# Altium integrated library Capacitor - Ceramic - Sumsung.IntLib: 1421 symbols (part 9 of 22)
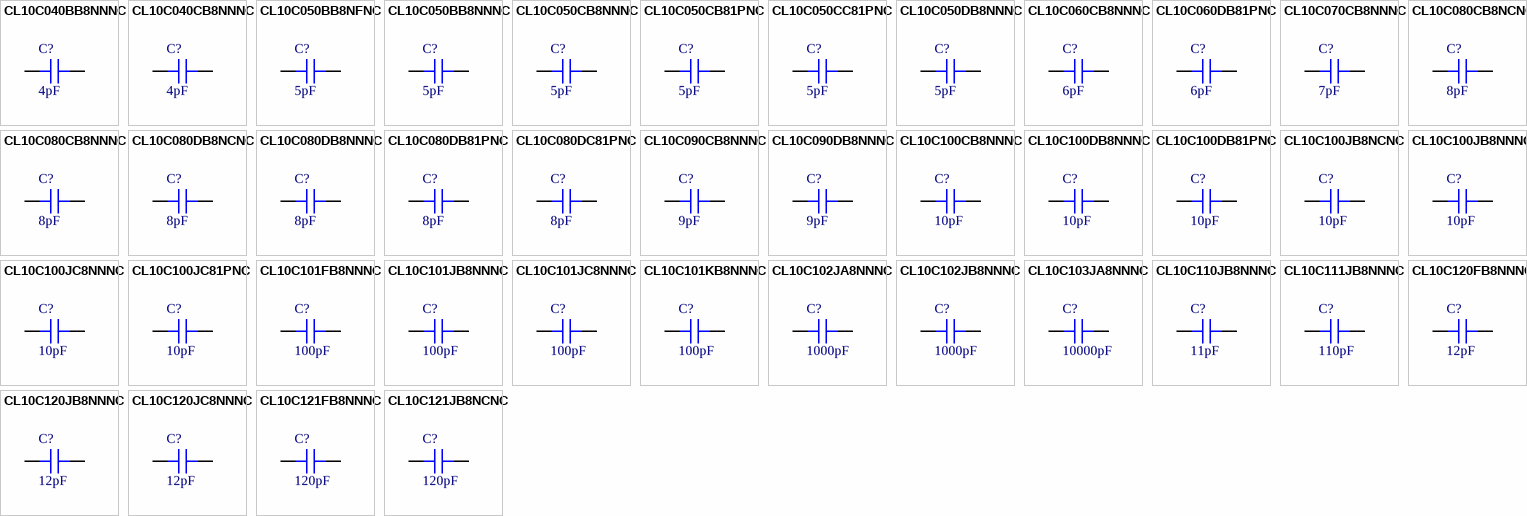
[diagram p43: symbols CL10C040BB8NNNC to CL10C121JB8NCNC]

## CL10C080CB8NCNC
designator C?, comment 8pF
CAP CER 8PF 50V NP0 0603; Part Number: CL10C080CB8NCNC; Manufacturer: Samsung Electro-Mechanics America, Inc.; TemperatureRange: -55C ~ 125C; TemperatureCoefficient: C0G, NP0; Tolerance: 0.25pF; Value: 8pF; PartId: 5396; Supplier 1: Digi-Key; Supplier Part Number 1: 1276-2139-2-ND; ComponentLink1Description: Datasheet; ComponentLink1URL: http://media.digikey.com/pdf/Data%20Sheets/Samsung%20PDFs/CL10C080CB8NCNC_spec.pdf; ComponentLink2Description: Digi-Key listing; ComponentLink2URL: http://digikey.com/product-detail/en/CL10C080CB8NCNC/1276-2139-2-ND/3887797; Voltage: 50V; Price: 0.0112; Type: -; Device Package: 0603 (1608 Metric)
footprint CAP 0603/1608
pins: 1, 2

## CL10C080CB8NNNC
designator C?, comment 8pF
CAP CER 8PF 50V C0G/NP0 0603; Part Number: CL10C080CB8NNNC; Manufacturer: Samsung Electro-Mechanics; TemperatureRange: -55C ~ 125C; TemperatureCoefficient: C0G, NP0; Tolerance: 0.25pF; Value: 8pF; PartId: 30239; Supplier 1: Digi-Key; Supplier Part Number 1: 1276-1817-2-ND; ComponentLink1Description: Datasheet; ComponentLink1URL: http://www.samsungsem.com/kr/support/product-search/mlcc/CL10C080CB8NNNC.jsp; ComponentLink2Description: Digi-Key Listing; ComponentLink2URL: https://www.digikey.com/product-detail/en/samsung-electro-mechanics/CL10C080CB8NNNC/1276-1817-2-ND/3887475; Voltage: 50V; Price: 0; Device Package: 0603 (1608 Metric)
footprint CAP 0603/1608
pins: 1, 2

## CL10C080DB8NCNC
designator C?, comment 8pF
CAP CER 8PF 50V C0G/NP0 0603; Part Number: CL10C080DB8NCNC; Manufacturer: Samsung Electro-Mechanics; TemperatureRange: -55C ~ 125C; TemperatureCoefficient: C0G, NP0; Tolerance: 0.5pF; Value: 8pF; PartId: 30225; Supplier 1: Digi-Key; Supplier Part Number 1: 1276-2140-2-ND; ComponentLink1Description: Datasheet; ComponentLink1URL: http://www.samsungsem.com/kr/support/product-search/mlcc/CL10C080DB8NCNC.jsp; ComponentLink2Description: Digi-Key Listing; ComponentLink2URL: https://www.digikey.com/product-detail/en/samsung-electro-mechanics/CL10C080DB8NCNC/1276-2140-2-ND/3887798; Voltage: 50V; Price: 0; Device Package: 0603 (1608 Metric)
footprint CAP 0603/1608
pins: 1, 2

## CL10C080DB8NNNC
designator C?, comment 8pF
CAP CER 8PF 50V NP0 0603; Part Number: CL10C080DB8NNNC; Manufacturer: Samsung Electro-Mechanics America, Inc.; TemperatureRange: -55C ~ 125C; TemperatureCoefficient: C0G, NP0; Tolerance: 0.5pF; Value: 8pF; PartId: 5378; Supplier 1: Digi-Key; Supplier Part Number 1: 1276-2141-2-ND; ComponentLink1Description: Datasheet; ComponentLink1URL: http://www.samsungsem.com/kr/support/product-search/mlcc/CL10C080DB8NNNC.jsp; ComponentLink2Description: Digi-Key listing; ComponentLink2URL: http://digikey.com/product-detail/en/CL10C080DB8NNNC/1276-2141-2-ND/3887799; Voltage: 50V; Price: 0.0102; Type: -; Device Package: 0603 (1608 Metric)
footprint CAP 0603/1608
pins: 1, 2

## CL10C080DB81PNC
designator C?, comment 8pF
MLCC AUTOMOTIVE 1608(0603) C0G; Part Number: CL10C080DB81PNC; Manufacturer: Samsung Electro-Mechanics; TemperatureRange: -55C ~ 125C; TemperatureCoefficient: C0G, NP0; Tolerance: 0.5pF; Voltage: 50V; Value: 8pF; PartId: 30718; Supplier 1: Digi-Key; Supplier Part Number 1: 1276-7008-2-ND; ComponentLink1Description: Datasheet; ComponentLink1URL: http://www.samsungsem.com/kr/support/product-search/mlcc/CL10C080DB81PNC.jsp; ComponentLink2Description: Digi-Key Listing; ComponentLink2URL: https://www.digikey.com/product-detail/en/samsung-electro-mechanics/CL10C080DB81PNC/1276-7008-2-ND/7320513; Price: 0; Device Package: 0603 (1608 Metric)
footprint CAP 0603/1608
pins: 1, 2

## CL10C080DC81PNC
designator C?, comment 8pF
CAP CER 8PF 100V C0G/NP0 0603; Part Number: CL10C080DC81PNC; Manufacturer: Samsung Electro-Mechanics; TemperatureRange: -55C ~ 125C; TemperatureCoefficient: C0G, NP0; Tolerance: 0.5pF; Value: 8pF; PartId: 30845; Supplier 1: Digi-Key; Supplier Part Number 1: 1276-6519-2-ND; ComponentLink1Description: Datasheet; ComponentLink1URL: http://www.samsungsem.com/kr/support/product-search/mlcc/CL10C080DC81PNC.jsp; ComponentLink2Description: Digi-Key Listing; ComponentLink2URL: https://www.digikey.com/product-detail/en/samsung-electro-mechanics/CL10C080DC81PNC/1276-6519-2-ND/5961003; Voltage: 100V; Price: 0; Device Package: 0603 (1608 Metric)
footprint CAP 0603/1608
pins: 1, 2

## CL10C090CB8NNNC
designator C?, comment 9pF
CAP CER 9PF 50V NP0 0603; Part Number: CL10C090CB8NNNC; Manufacturer: Samsung Electro-Mechanics America, Inc.; TemperatureRange: -55C ~ 125C; TemperatureCoefficient: C0G, NP0; Tolerance: 0.25pF; Value: 9pF; PartId: 5402; Supplier 1: Digi-Key; Supplier Part Number 1: 1276-2142-2-ND; ComponentLink1Description: Datasheet; ComponentLink1URL: http://www.samsungsem.com/kr/support/product-search/mlcc/CL10C090CB8NNNC.jsp; ComponentLink2Description: Digi-Key listing; ComponentLink2URL: http://digikey.com/product-detail/en/CL10C090CB8NNNC/1276-2142-2-ND/3887800; Voltage: 50V; Price: 0.0116; Type: -; Device Package: 0603 (1608 Metric)
footprint CAP 0603/1608
pins: 1, 2

## CL10C090DB8NNNC
designator C?, comment 9pF
CAP CER 9PF 50V NP0 0603; Part Number: CL10C090DB8NNNC; Manufacturer: Samsung Electro-Mechanics America, Inc.; TemperatureRange: -55C ~ 125C; TemperatureCoefficient: C0G, NP0; Tolerance: 0.5pF; Value: 9pF; PartId: 5381; Supplier 1: Digi-Key; Supplier Part Number 1: 1276-2143-2-ND; ComponentLink1Description: Datasheet; ComponentLink1URL: http://www.samsungsem.com/kr/support/product-search/mlcc/CL10C090DB8NNNC.jsp; ComponentLink2Description: Digi-Key listing; ComponentLink2URL: http://digikey.com/product-detail/en/CL10C090DB8NNNC/1276-2143-2-ND/3887801; Voltage: 50V; Price: 0.0102; Type: -; Device Package: 0603 (1608 Metric)
footprint CAP 0603/1608
pins: 1, 2

## CL10C100CB8NNNC
designator C?, comment 10pF
CAP CER 10PF 50V NP0 0603; Part Number: CL10C100CB8NNNC; Manufacturer: Samsung Electro-Mechanics America, Inc.; TemperatureRange: -55C ~ 125C; TemperatureCoefficient: C0G, NP0; Tolerance: 0.25pF; Value: 10pF; PartId: 5393; Supplier 1: Digi-Key; Supplier Part Number 1: 1276-1069-2-ND; ComponentLink1Description: Datasheet; ComponentLink1URL: http://www.samsungsem.com/kr/support/product-search/mlcc/CL10C100CB8NNNC.jsp; ComponentLink2Description: Digi-Key listing; ComponentLink2URL: http://digikey.com/product-detail/en/CL10C100CB8NNNC/1276-1069-2-ND/3886727; Voltage: 50V; Price: 0.0109; Type: -; Device Package: 0603 (1608 Metric)
footprint CAP 0603/1608
pins: 1, 2

## CL10C100DB8NNNC
designator C?, comment 10pF
CAP CER 10PF 50V NP0 0603; Part Number: CL10C100DB8NNNC; Manufacturer: Samsung Electro-Mechanics America, Inc.; TemperatureRange: -55C ~ 125C; TemperatureCoefficient: C0G, NP0; Tolerance: 0.5pF; Value: 10pF; PartId: 5356; Supplier 1: Digi-Key; Supplier Part Number 1: 1276-2151-2-ND; ComponentLink1Description: Datasheet; ComponentLink1URL: http://www.samsungsem.com/kr/support/product-search/mlcc/CL10C100DB8NNNC.jsp; ComponentLink2Description: Digi-Key listing; ComponentLink2URL: http://digikey.com/product-detail/en/CL10C100DB8NNNC/1276-2151-2-ND/3887809; Voltage: 50V; Price: 0.0099; Type: -; Device Package: 0603 (1608 Metric)
footprint CAP 0603/1608
pins: 1, 2

## CL10C100DB81PNC
designator C?, comment 10pF
MLCC AUTOMOTIVE 1608(0603) C0G; Part Number: CL10C100DB81PNC; Manufacturer: Samsung Electro-Mechanics; TemperatureRange: -55C ~ 125C; TemperatureCoefficient: C0G, NP0; Tolerance: 0.5pF; Voltage: 50V; Value: 10pF; PartId: 30812; Supplier 1: Digi-Key; Supplier Part Number 1: 1276-7050-2-ND; ComponentLink1Description: Datasheet; ComponentLink1URL: http://www.samsungsem.com/kr/support/product-search/mlcc/CL10C100DB81PNC.jsp; ComponentLink2Description: Digi-Key Listing; ComponentLink2URL: https://www.digikey.com/product-detail/en/samsung-electro-mechanics/CL10C100DB81PNC/1276-7050-2-ND/7320555; Price: 0; Device Package: 0603 (1608 Metric)
footprint CAP 0603/1608
pins: 1, 2

## CL10C100JB8NCNC
designator C?, comment 10pF
CAP CER 10PF 50V NP0 0603; Part Number: CL10C100JB8NCNC; Manufacturer: Samsung Electro-Mechanics America, Inc.; TemperatureRange: -55C ~ 125C; TemperatureCoefficient: C0G, NP0; Tolerance: 5%; Value: 10pF; PartId: 5311; Supplier 1: Digi-Key; Supplier Part Number 1: 1276-2154-2-ND; ComponentLink1Description: Datasheet; ComponentLink1URL: http://media.digikey.com/pdf/Data%20Sheets/Samsung%20PDFs/CL10C100JB8NCNC_spec.pdf; ComponentLink2Description: Digi-Key listing; ComponentLink2URL: http://digikey.com/product-detail/en/CL10C100JB8NCNC/1276-2154-2-ND/3887812; Voltage: 50V; Price: 0.0081; Type: -; Device Package: 0603 (1608 Metric)
footprint CAP 0603/1608
pins: 1, 2

## CL10C100JB8NNNC
designator C?, comment 10pF
CAP CER 10PF 50V NP0 0603; Part Number: CL10C100JB8NNNC; Manufacturer: Samsung Electro-Mechanics America, Inc.; TemperatureRange: -55C ~ 125C; TemperatureCoefficient: C0G, NP0; Tolerance: 5%; Value: 10pF; PartId: 13479; Supplier 1: Digi-Key; Supplier Part Number 1: 1276-1027-2-ND; ComponentLink1Description: Datasheet; ComponentLink1URL: http://www.samsungsem.com/kr/support/product-search/mlcc/CL10C100JB8NNNC.jsp; ComponentLink2Description: Digi-Key Listing; ComponentLink2URL: https://www.digikey.com/product-detail/en/samsung-electro-mechanics-america-inc/CL10C100JB8NNNC/1276-1027-2-ND/3886685; Voltage: 50V; Price: 0.0056; Device Package: 0603 (1608 Metric)
footprint CAP 0603/1608
pins: 1, 2

## CL10C100JC8NNNC
designator C?, comment 10pF
CAP CER 10PF 100V NP0 0603; Part Number: CL10C100JC8NNNC; Manufacturer: Samsung Electro-Mechanics America, Inc.; TemperatureRange: -55C ~ 125C; TemperatureCoefficient: C0G, NP0; Tolerance: 5%; Value: 10pF; PartId: 5421; Supplier 1: Digi-Key; Supplier Part Number 1: 1276-2157-2-ND; ComponentLink1Description: Datasheet; ComponentLink1URL: http://www.samsungsem.com/kr/support/product-search/mlcc/CL10C100JC8NNNC.jsp; ComponentLink2Description: Digi-Key listing; ComponentLink2URL: http://digikey.com/product-detail/en/CL10C100JC8NNNC/1276-2157-2-ND/3887815; Voltage: 100V; Price: 0.0133; Type: -; Device Package: 0603 (1608 Metric)
footprint CAP 0603/1608
pins: 1, 2

## CL10C100JC81PNC
designator C?, comment 10pF
CAP CER 10PF 100V C0G/NP0 0603; Part Number: CL10C100JC81PNC; Manufacturer: Samsung Electro-Mechanics; TemperatureRange: -55C ~ 125C; TemperatureCoefficient: C0G, NP0; Tolerance: 5%; Value: 10pF; PartId: 30548; Supplier 1: Digi-Key; Supplier Part Number 1: 1276-6588-2-ND; ComponentLink1Description: Datasheet; ComponentLink1URL: http://www.samsungsem.com/kr/support/product-search/mlcc/CL10C100JC81PNC.jsp; ComponentLink2Description: Digi-Key Listing; ComponentLink2URL: https://www.digikey.com/product-detail/en/samsung-electro-mechanics/CL10C100JC81PNC/1276-6588-2-ND/5961072; Voltage: 100V; Price: 0; Device Package: 0603 (1608 Metric)
footprint CAP 0603/1608
pins: 1, 2

## CL10C101FB8NNNC
designator C?, comment 100pF
CAP CER 100PF 50V NP0 0603; Part Number: CL10C101FB8NNNC; Manufacturer: Samsung Electro-Mechanics America, Inc.; TemperatureRange: -55C ~ 125C; TemperatureCoefficient: C0G, NP0; Tolerance: 1%; Value: 100pF; PartId: 5587; Supplier 1: Digi-Key; Supplier Part Number 1: 1276-2159-2-ND; ComponentLink1Description: Datasheet; ComponentLink1URL: http://media.digikey.com/pdf/Data%20Sheets/Samsung%20PDFs/CL10C101FB8NNNC_spec.pdf; ComponentLink2Description: Digi-Key listing; ComponentLink2URL: http://digikey.com/product-detail/en/CL10C101FB8NNNC/1276-2159-2-ND/3887817; Voltage: 50V; Price: 0.0308; Type: -; Device Package: 0603 (1608 Metric)
footprint CAP 0603/1608
pins: 1, 2

## CL10C101JB8NNNC
designator C?, comment 100pF
CAP CER 100PF 50V NP0 0603; Part Number: CL10C101JB8NNNC; Manufacturer: Samsung Electro-Mechanics America, Inc.; TemperatureRange: -55C ~ 125C; TemperatureCoefficient: C0G, NP0; Tolerance: 5%; Value: 100pF; PartId: 5283; Supplier 1: Digi-Key; Supplier Part Number 1: 1276-1008-2-ND; ComponentLink1Description: Datasheet; ComponentLink1URL: http://www.samsungsem.com/kr/support/product-search/mlcc/CL10C101JB8NNNC.jsp; ComponentLink2Description: Digi-Key listing; ComponentLink2URL: http://digikey.com/product-detail/en/CL10C101JB8NNNC/1276-1008-2-ND/3886666; Voltage: 50V; Price: 0.0069; Type: -; Device Package: 0603 (1608 Metric)
footprint CAP 0603/1608
pins: 1, 2

## CL10C101JC8NNNC
designator C?, comment 100pF
CAP CER 100PF 100V NP0 0603; Part Number: CL10C101JC8NNNC; Manufacturer: Samsung Electro-Mechanics America, Inc.; TemperatureRange: -55C ~ 125C; TemperatureCoefficient: C0G, NP0; Tolerance: 5%; Value: 100pF; PartId: 5420; Supplier 1: Digi-Key; Supplier Part Number 1: 1276-1295-2-ND; ComponentLink1Description: Datasheet; ComponentLink1URL: http://www.samsungsem.com/kr/support/product-search/mlcc/CL10C101JC8NNNC.jsp; ComponentLink2Description: Digi-Key listing; ComponentLink2URL: http://digikey.com/product-detail/en/CL10C101JC8NNNC/1276-1295-2-ND/3886953; Voltage: 100V; Price: 0.0133; Type: -; Device Package: 0603 (1608 Metric)
footprint CAP 0603/1608
pins: 1, 2

## CL10C101KB8NNNC
designator C?, comment 100pF
CAP CER 100PF 50V NP0 0603; Part Number: CL10C101KB8NNNC; Manufacturer: Samsung Electro-Mechanics America, Inc.; TemperatureRange: -55C ~ 125C; TemperatureCoefficient: C0G, NP0; Tolerance: 10%; Value: 100pF; PartId: 5284; Supplier 1: Digi-Key; Supplier Part Number 1: 1276-2167-2-ND; ComponentLink1Description: Datasheet; ComponentLink1URL: http://www.samsungsem.com/kr/support/product-search/mlcc/CL10C101KB8NNNC.jsp; ComponentLink2Description: Digi-Key listing; ComponentLink2URL: http://digikey.com/product-detail/en/CL10C101KB8NNNC/1276-2167-2-ND/3887825; Voltage: 50V; Price: 0.0069; Type: -; Device Package: 0603 (1608 Metric)
footprint CAP 0603/1608
pins: 1, 2

## CL10C102JA8NNNC
designator C?, comment 1000pF
CAP CER 1000PF 25V NP0 0603; Part Number: CL10C102JA8NNNC; Manufacturer: Samsung Electro-Mechanics America, Inc.; TemperatureRange: -55C ~ 125C; TemperatureCoefficient: C0G, NP0; Tolerance: 5%; Value: 1000pF; PartId: 5399; Supplier 1: Digi-Key; Supplier Part Number 1: 1276-2168-2-ND; ComponentLink1Description: Datasheet; ComponentLink1URL: http://www.samsungsem.com/kr/support/product-search/mlcc/CL10C102JA8NNNC.jsp; ComponentLink2Description: Digi-Key listing; ComponentLink2URL: http://digikey.com/product-detail/en/CL10C102JA8NNNC/1276-2168-2-ND/3887826; Voltage: 25V; Price: 0.0112; Type: -; Device Package: 0603 (1608 Metric)
footprint CAP 0603/1608
pins: 1, 2

## CL10C102JB8NNNC
designator C?, comment 1000pF
CAP CER 1000PF 50V NP0 0603; Part Number: CL10C102JB8NNNC; Manufacturer: Samsung Electro-Mechanics America, Inc.; TemperatureRange: -55C ~ 125C; TemperatureCoefficient: C0G, NP0; Tolerance: 5%; Value: 1000pF; PartId: 5339; Supplier 1: Digi-Key; Supplier Part Number 1: 1276-1091-2-ND; ComponentLink1Description: Datasheet; ComponentLink1URL: http://www.samsungsem.com/kr/support/product-search/mlcc/CL10C102JB8NNNC.jsp; ComponentLink2Description: Digi-Key listing; ComponentLink2URL: http://digikey.com/product-detail/en/CL10C102JB8NNNC/1276-1091-2-ND/3886749; Voltage: 50V; Price: 0.0097; Type: -; Device Package: 0603 (1608 Metric)
footprint CAP 0603/1608
pins: 1, 2

## CL10C103JA8NNNC
designator C?, comment 10000pF
CAP CER 10000PF 25V NP0 0603; Part Number: CL10C103JA8NNNC; Manufacturer: Samsung Electro-Mechanics America, Inc.; TemperatureRange: -55C ~ 125C; TemperatureCoefficient: C0G, NP0; Tolerance: 5%; Value: 10000pF; PartId: 5657; Supplier 1: Digi-Key; Supplier Part Number 1: 1276-2172-2-ND; ComponentLink1Description: Datasheet; ComponentLink1URL: http://www.samsungsem.com/kr/support/product-search/mlcc/CL10C103JA8NNNC.jsp; ComponentLink2Description: Digi-Key listing; ComponentLink2URL: http://digikey.com/product-detail/en/CL10C103JA8NNNC/1276-2172-2-ND/3887830; Voltage: 25V; Price: 0.0689; Type: -; Device Package: 0603 (1608 Metric)
footprint CAP 0603/1608
pins: 1, 2

## CL10C110JB8NNNC
designator C?, comment 11pF
CAP CER 11PF 50V C0G/NP0 0603; Part Number: CL10C110JB8NNNC; Manufacturer: Samsung Electro-Mechanics; TemperatureRange: -55C ~ 125C; TemperatureCoefficient: C0G, NP0; Tolerance: 5%; Value: 11pF; PartId: 30226; Supplier 1: Digi-Key; Supplier Part Number 1: 1276-2173-2-ND; ComponentLink1Description: Datasheet; ComponentLink1URL: http://www.samsungsem.com/kr/support/product-search/mlcc/CL10C110JB8NNNC.jsp; ComponentLink2Description: Digi-Key Listing; ComponentLink2URL: https://www.digikey.com/product-detail/en/samsung-electro-mechanics/CL10C110JB8NNNC/1276-2173-2-ND/3887831; Voltage: 50V; Price: 0; Device Package: 0603 (1608 Metric)
footprint CAP 0603/1608
pins: 1, 2

## CL10C111JB8NNNC
designator C?, comment 110pF
CAP CER 110PF 50V NP0 0603; Part Number: CL10C111JB8NNNC; Manufacturer: Samsung Electro-Mechanics America, Inc.; TemperatureRange: -55C ~ 125C; TemperatureCoefficient: C0G, NP0; Tolerance: 5%; Value: 110pF; PartId: 5453; Supplier 1: Digi-Key; Supplier Part Number 1: 1276-2174-2-ND; ComponentLink1Description: Datasheet; ComponentLink1URL: http://www.samsungsem.com/kr/support/product-search/mlcc/CL10C111JB8NNNC.jsp; ComponentLink2Description: Digi-Key listing; ComponentLink2URL: http://digikey.com/product-detail/en/CL10C111JB8NNNC/1276-2174-2-ND/3887832; Voltage: 50V; Price: 0.0153; Type: -; Device Package: 0603 (1608 Metric)
footprint CAP 0603/1608
pins: 1, 2

## CL10C120FB8NNNC
designator C?, comment 12pF
CAP CER 12PF 50V NP0 0603; Part Number: CL10C120FB8NNNC; Manufacturer: Samsung Electro-Mechanics America, Inc.; TemperatureRange: -55C ~ 125C; TemperatureCoefficient: C0G, NP0; Tolerance: 1%; Value: 12pF; PartId: 5481; Supplier 1: Digi-Key; Supplier Part Number 1: 1276-2175-2-ND; ComponentLink1Description: Datasheet; ComponentLink1URL: http://media.digikey.com/pdf/Data%20Sheets/Samsung%20PDFs/CL10C120FB8NNNC_spec.pdf; ComponentLink2Description: Digi-Key listing; ComponentLink2URL: http://digikey.com/product-detail/en/CL10C120FB8NNNC/1276-2175-2-ND/3887833; Voltage: 50V; Price: 0.0183; Type: -; Device Package: 0603 (1608 Metric)
footprint CAP 0603/1608
pins: 1, 2

## CL10C120JB8NNNC
designator C?, comment 12pF
CAP CER 12PF 50V NP0 0603; Part Number: CL10C120JB8NNNC; Manufacturer: Samsung Electro-Mechanics America, Inc.; TemperatureRange: -55C ~ 125C; TemperatureCoefficient: C0G, NP0; Tolerance: 5%; Value: 12pF; PartId: 5308; Supplier 1: Digi-Key; Supplier Part Number 1: 1276-1254-2-ND; ComponentLink1Description: Datasheet; ComponentLink1URL: http://www.samsungsem.com/kr/support/product-search/mlcc/CL10C120JB8NNNC.jsp; ComponentLink2Description: Digi-Key listing; ComponentLink2URL: http://digikey.com/product-detail/en/CL10C120JB8NNNC/1276-1254-2-ND/3886912; Voltage: 50V; Price: 0.008; Type: -; Device Package: 0603 (1608 Metric)
footprint CAP 0603/1608
pins: 1, 2

## CL10C120JC8NNNC
designator C?, comment 12pF
CAP CER 12PF 100V NP0 0603; Part Number: CL10C120JC8NNNC; Manufacturer: Samsung Electro-Mechanics America, Inc.; TemperatureRange: -55C ~ 125C; TemperatureCoefficient: C0G, NP0; Tolerance: 5%; Value: 12pF; PartId: 13654; Supplier 1: Digi-Key; Supplier Part Number 1: 1276-2177-2-ND; ComponentLink1Description: Datasheet; ComponentLink1URL: http://www.samsungsem.com/kr/support/product-search/mlcc/CL10C120JC8NNNC.jsp; ComponentLink2Description: Digi-Key Listing; ComponentLink2URL: https://www.digikey.com/product-detail/en/samsung-electro-mechanics-america-inc/CL10C120JC8NNNC/1276-2177-2-ND/3887835; Voltage: 100V; Price: 0.0098; Device Package: 0603 (1608 Metric)
footprint CAP 0603/1608
pins: 1, 2

## CL10C121FB8NNNC
designator C?, comment 120pF
CAP CER 120PF 50V NP0 0603; Part Number: CL10C121FB8NNNC; Manufacturer: Samsung Electro-Mechanics America, Inc.; TemperatureRange: -55C ~ 125C; TemperatureCoefficient: C0G, NP0; Tolerance: 1%; Value: 120pF; PartId: 5653; Supplier 1: Digi-Key; Supplier Part Number 1: 1276-2178-2-ND; ComponentLink1Description: Datasheet; ComponentLink1URL: http://media.digikey.com/pdf/Data%20Sheets/Samsung%20PDFs/CL10C121FB8NNNC_Spec.pdf; ComponentLink2Description: Digi-Key listing; ComponentLink2URL: http://digikey.com/product-detail/en/CL10C121FB8NNNC/1276-2178-2-ND/3887836; Voltage: 50V; Price: 0.0639; Type: -; Device Package: 0603 (1608 Metric)
footprint CAP 0603/1608
pins: 1, 2

## CL10C121JB8NCNC
designator C?, comment 120pF
CAP CER 120PF 50V NP0 0603; Part Number: CL10C121JB8NCNC; Manufacturer: Samsung Electro-Mechanics America, Inc.; TemperatureRange: -55C ~ 125C; TemperatureCoefficient: C0G, NP0; Tolerance: 5%; Value: 120pF; PartId: 5314; Supplier 1: Digi-Key; Supplier Part Number 1: 1276-2180-2-ND; ComponentLink1Description: Datasheet; ComponentLink1URL: http://media.digikey.com/pdf/Data%20Sheets/Samsung%20PDFs/CL10C121JB8NCNC_Spec.pdf; ComponentLink2Description: Digi-Key listing; ComponentLink2URL: http://digikey.com/product-detail/en/CL10C121JB8NCNC/1276-2180-2-ND/3887838; Voltage: 50V; Price: 0.0081; Type: -; Device Package: 0603 (1608 Metric)
footprint CAP 0603/1608
pins: 1, 2

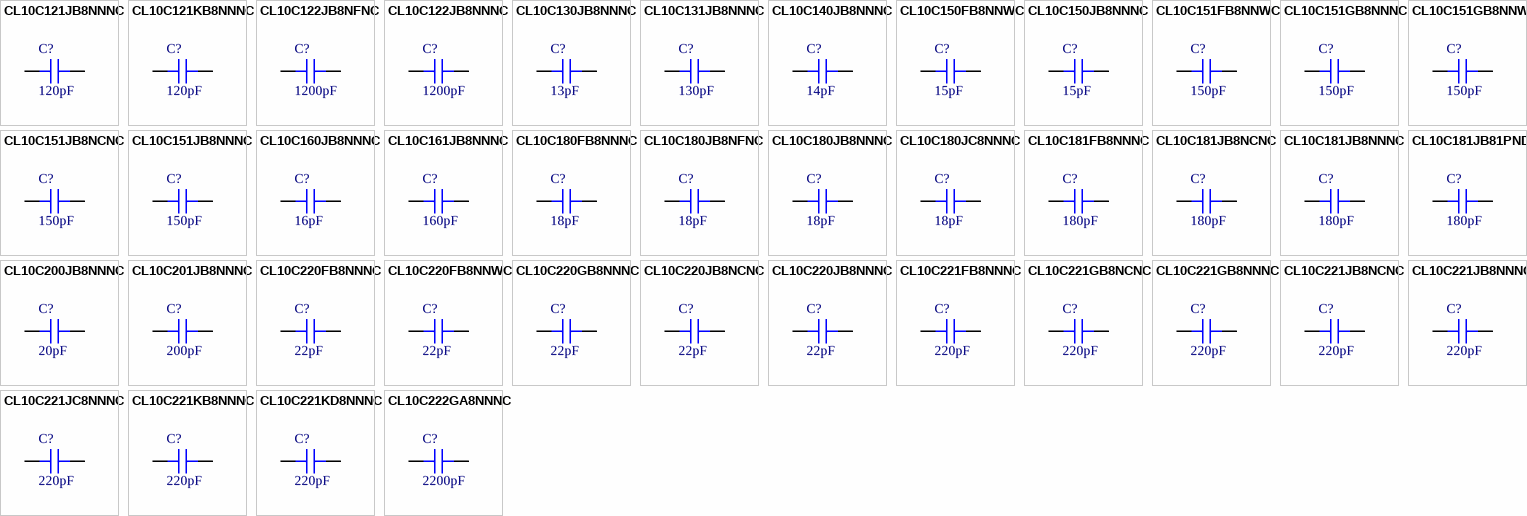
[diagram p14: symbols CL10C121JB8NNNC to CL10C222GA8NNNC]

## CL10C121JB8NNNC
designator C?, comment 120pF
CAP CER 120PF 50V NP0 0603; Part Number: CL10C121JB8NNNC; Manufacturer: Samsung Electro-Mechanics America, Inc.; TemperatureRange: -55C ~ 125C; TemperatureCoefficient: C0G, NP0; Tolerance: 5%; Value: 120pF; PartId: 13514; Supplier 1: Digi-Key; Supplier Part Number 1: 1276-1160-2-ND; ComponentLink1Description: Datasheet; ComponentLink1URL: http://www.samsungsem.com/kr/support/product-search/mlcc/CL10C121JB8NNNC.jsp; ComponentLink2Description: Digi-Key Listing; ComponentLink2URL: https://www.digikey.com/product-detail/en/samsung-electro-mechanics-america-inc/CL10C121JB8NNNC/1276-1160-2-ND/3886818; Voltage: 50V; Price: 0.008; Device Package: 0603 (1608 Metric)
footprint CAP 0603/1608
pins: 1, 2

## CL10C121KB8NNNC
designator C?, comment 120pF
CAP CER 120PF 50V NP0 0603; Part Number: CL10C121KB8NNNC; Manufacturer: Samsung Electro-Mechanics America, Inc.; TemperatureRange: -55C ~ 125C; TemperatureCoefficient: C0G, NP0; Tolerance: 10%; Value: 120pF; PartId: 5405; Supplier 1: Digi-Key; Supplier Part Number 1: 1276-2182-2-ND; ComponentLink1Description: Datasheet; ComponentLink1URL: http://www.samsungsem.com/kr/support/product-search/mlcc/CL10C121KB8NNNC.jsp; ComponentLink2Description: Digi-Key listing; ComponentLink2URL: http://digikey.com/product-detail/en/CL10C121KB8NNNC/1276-2182-2-ND/3887840; Voltage: 50V; Price: 0.0116; Type: -; Device Package: 0603 (1608 Metric)
footprint CAP 0603/1608
pins: 1, 2

## CL10C122JB8NFNC
designator C?, comment 1200pF
CAP CER 1200PF 50V C0G/NP0 0603; Part Number: CL10C122JB8NFNC; Manufacturer: Samsung Electro-Mechanics; TemperatureRange: -55C ~ 125C; TemperatureCoefficient: C0G, NP0; Tolerance: 5%; Value: 1200pF; PartId: 30539; Supplier 1: Digi-Key; Supplier Part Number 1: 1276-2183-2-ND; ComponentLink1Description: Datasheet; ComponentLink1URL: http://www.samsungsem.com/kr/support/product-search/mlcc/CL10C122JB8NFNC.jsp; ComponentLink2Description: Digi-Key Listing; ComponentLink2URL: https://www.digikey.com/product-detail/en/samsung-electro-mechanics/CL10C122JB8NFNC/1276-2183-2-ND/3887841; Voltage: 50V; Price: 0; Device Package: 0603 (1608 Metric)
footprint CAP 0603/1608
pins: 1, 2

## CL10C122JB8NNNC
designator C?, comment 1200pF
CAP CER 1200PF 50V NP0 0603; Part Number: CL10C122JB8NNNC; Manufacturer: Samsung Electro-Mechanics America, Inc.; TemperatureRange: -55C ~ 125C; TemperatureCoefficient: C0G, NP0; Tolerance: 5%; Value: 1200pF; PartId: 5422; Supplier 1: Digi-Key; Supplier Part Number 1: 1276-2184-2-ND; ComponentLink1Description: Datasheet; ComponentLink1URL: http://www.samsungsem.com/kr/support/product-search/mlcc/CL10C122JB8NNNC.jsp; ComponentLink2Description: Digi-Key listing; ComponentLink2URL: http://digikey.com/product-detail/en/CL10C122JB8NNNC/1276-2184-2-ND/3887842; Voltage: 50V; Price: 0.0133; Type: -; Device Package: 0603 (1608 Metric)
footprint CAP 0603/1608
pins: 1, 2

## CL10C130JB8NNNC
designator C?, comment 13pF
CAP CER 13PF 50V NP0 0603; Part Number: CL10C130JB8NNNC; Manufacturer: Samsung Electro-Mechanics America, Inc.; TemperatureRange: -55C ~ 125C; TemperatureCoefficient: C0G, NP0; Tolerance: 5%; Value: 13pF; PartId: 5407; Supplier 1: Digi-Key; Supplier Part Number 1: 1276-2185-2-ND; ComponentLink1Description: Datasheet; ComponentLink1URL: http://www.samsungsem.com/kr/support/product-search/mlcc/CL10C130JB8NNNC.jsp; ComponentLink2Description: Digi-Key listing; ComponentLink2URL: http://digikey.com/product-detail/en/CL10C130JB8NNNC/1276-2185-2-ND/3887843; Voltage: 50V; Price: 0.0117; Type: -; Device Package: 0603 (1608 Metric)
footprint CAP 0603/1608
pins: 1, 2

## CL10C131JB8NNNC
designator C?, comment 130pF
CAP CER 130PF 50V NP0 0603; Part Number: CL10C131JB8NNNC; Manufacturer: Samsung Electro-Mechanics America, Inc.; TemperatureRange: -55C ~ 125C; TemperatureCoefficient: C0G, NP0; Tolerance: 5%; Value: 130pF; PartId: 5452; Supplier 1: Digi-Key; Supplier Part Number 1: 1276-2186-2-ND; ComponentLink1Description: Datasheet; ComponentLink1URL: http://www.samsungsem.com/kr/support/product-search/mlcc/CL10C131JB8NNNC.jsp; ComponentLink2Description: Digi-Key listing; ComponentLink2URL: http://digikey.com/product-detail/en/CL10C131JB8NNNC/1276-2186-2-ND/3887844; Voltage: 50V; Price: 0.0153; Type: -; Device Package: 0603 (1608 Metric)
footprint CAP 0603/1608
pins: 1, 2

## CL10C140JB8NNNC
designator C?, comment 14pF
CAP CER 14PF 50V NP0 0603; Part Number: CL10C140JB8NNNC; Manufacturer: Samsung Electro-Mechanics America, Inc.; TemperatureRange: -55C ~ 125C; TemperatureCoefficient: C0G, NP0; Tolerance: 5%; Value: 14pF; PartId: 5260; Supplier 1: Digi-Key; Supplier Part Number 1: 1276-2187-2-ND; ComponentLink1Description: Datasheet; ComponentLink1URL: http://www.samsungsem.com/kr/support/product-search/mlcc/CL10C140JB8NNNC.jsp; ComponentLink2Description: Digi-Key listing; ComponentLink2URL: http://digikey.com/product-detail/en/CL10C140JB8NNNC/1276-2187-2-ND/3887845; Voltage: 50V; Price: 0.0039; Type: -; Device Package: 0603 (1608 Metric)
footprint CAP 0603/1608
pins: 1, 2

## CL10C150FB8NNWC
designator C?, comment 15pF
CAP CER 15PF 50V NP0 0603; Part Number: CL10C150FB8NNWC; Manufacturer: Samsung Electro-Mechanics America, Inc.; TemperatureRange: -55C ~ 125C; TemperatureCoefficient: C0G, NP0; Tolerance: 1%; Value: 15pF; PartId: 5613; Supplier 1: Digi-Key; Supplier Part Number 1: 1276-2188-2-ND; ComponentLink1Description: Datasheet; ComponentLink1URL: http://media.digikey.com/pdf/Data%20Sheets/Samsung%20PDFs/CL10C150FB8NNWC_Spec.pdf; ComponentLink2Description: Digi-Key listing; ComponentLink2URL: http://digikey.com/product-detail/en/CL10C150FB8NNWC/1276-2188-2-ND/3887846; Voltage: 50V; Price: 0.0342; Type: -; Device Package: 0603 (1608 Metric)
footprint CAP 0603/1608
pins: 1, 2

## CL10C150JB8NNNC
designator C?, comment 15pF
CAP CER 15PF 50V NP0 0603; Part Number: CL10C150JB8NNNC; Manufacturer: Samsung Electro-Mechanics America, Inc.; TemperatureRange: -55C ~ 125C; TemperatureCoefficient: C0G, NP0; Tolerance: 5%; Value: 15pF; PartId: 5301; Supplier 1: Digi-Key; Supplier Part Number 1: 1276-1296-2-ND; ComponentLink1Description: Datasheet; ComponentLink1URL: http://www.samsungsem.com/kr/support/product-search/mlcc/CL10C150JB8NNNC.jsp; ComponentLink2Description: Digi-Key listing; ComponentLink2URL: http://digikey.com/product-detail/en/CL10C150JB8NNNC/1276-1296-2-ND/3886954; Voltage: 50V; Price: 0.0077; Type: -; Device Package: 0603 (1608 Metric)
footprint CAP 0603/1608
pins: 1, 2

## CL10C151FB8NNWC
designator C?, comment 150pF
CAP CER 150PF 50V NP0 0603; Part Number: CL10C151FB8NNWC; Manufacturer: Samsung Electro-Mechanics America, Inc.; TemperatureRange: -55C ~ 125C; TemperatureCoefficient: C0G, NP0; Tolerance: 1%; Value: 150pF; PartId: 5659; Supplier 1: Digi-Key; Supplier Part Number 1: 1276-2195-2-ND; ComponentLink1Description: Datasheet; ComponentLink1URL: http://media.digikey.com/pdf/Data%20Sheets/Samsung%20PDFs/CL10C151FB8NNWC_Spec.pdf; ComponentLink2Description: Digi-Key listing; ComponentLink2URL: http://digikey.com/product-detail/en/CL10C151FB8NNWC/1276-2195-2-ND/3887853; Voltage: 50V; Price: 0.082; Type: -; Device Package: 0603 (1608 Metric)
footprint CAP 0603/1608
pins: 1, 2

## CL10C151GB8NNNC
designator C?, comment 150pF
CAP CER 150PF 50V C0G/NP0 0603; Part Number: CL10C151GB8NNNC; Manufacturer: Samsung Electro-Mechanics; TemperatureRange: -55C ~ 125C; TemperatureCoefficient: C0G, NP0; Tolerance: 2%; Value: 150pF; PartId: 30700; Supplier 1: Digi-Key; Supplier Part Number 1: 1276-2196-2-ND; ComponentLink1Description: Datasheet; ComponentLink1URL: http://www.samsungsem.com/kr/support/product-search/mlcc/CL10C151GB8NNNC.jsp; ComponentLink2Description: Digi-Key Listing; ComponentLink2URL: https://www.digikey.com/product-detail/en/samsung-electro-mechanics/CL10C151GB8NNNC/1276-2196-2-ND/3887854; Voltage: 50V; Price: 0; Device Package: 0603 (1608 Metric)
footprint CAP 0603/1608
pins: 1, 2

## CL10C151GB8NNWC
designator C?, comment 150pF
CAP CER 150PF 50V C0G/NP0 0603; Part Number: CL10C151GB8NNWC; Manufacturer: Samsung Electro-Mechanics; TemperatureRange: -55C ~ 125C; TemperatureCoefficient: C0G, NP0; Tolerance: 2%; Value: 150pF; PartId: 30758; Supplier 1: Digi-Key; Supplier Part Number 1: 1276-2197-2-ND; ComponentLink1Description: Datasheet; ComponentLink1URL: http://www.samsungsem.com/kr/support/product-search/mlcc/CL10C151GB8NNWC.jsp; ComponentLink2Description: Digi-Key Listing; ComponentLink2URL: https://www.digikey.com/product-detail/en/samsung-electro-mechanics/CL10C151GB8NNWC/1276-2197-2-ND/3887855; Voltage: 50V; Price: 0; Device Package: 0603 (1608 Metric)
footprint CAP 0603/1608
pins: 1, 2

## CL10C151JB8NCNC
designator C?, comment 150pF
CAP CER 150PF 50V NP0 0603; Part Number: CL10C151JB8NCNC; Manufacturer: Samsung Electro-Mechanics America, Inc.; TemperatureRange: -55C ~ 125C; TemperatureCoefficient: C0G, NP0; Tolerance: 5%; Value: 150pF; PartId: 13237; Supplier 1: Digi-Key; Supplier Part Number 1: 1276-2199-2-ND; ComponentLink1Description: Datasheet; ComponentLink1URL: //media.digikey.com/pdf/Data%20Sheets/Samsung%20PDFs/CL10C151JB8NCNC_Spec.pdf; ComponentLink2Description: Digi-Key Listing; ComponentLink2URL: https://www.digikey.com/product-detail/en/samsung-electro-mechanics-america-inc/CL10C151JB8NCNC/1276-2199-2-ND/3887857; Voltage: 50V; Price: 0.0055; Device Package: 0603 (1608 Metric)
footprint CAP 0603/1608
pins: 1, 2

## CL10C151JB8NNNC
designator C?, comment 150pF
CAP CER 150PF 50V NP0 0603; Part Number: CL10C151JB8NNNC; Manufacturer: Samsung Electro-Mechanics America, Inc.; TemperatureRange: -55C ~ 125C; TemperatureCoefficient: C0G, NP0; Tolerance: 5%; Value: 150pF; PartId: 5306; Supplier 1: Digi-Key; Supplier Part Number 1: 1276-1280-2-ND; ComponentLink1Description: Datasheet; ComponentLink1URL: http://www.samsungsem.com/kr/support/product-search/mlcc/CL10C151JB8NNNC.jsp; ComponentLink2Description: Digi-Key listing; ComponentLink2URL: http://digikey.com/product-detail/en/CL10C151JB8NNNC/1276-1280-2-ND/3886938; Voltage: 50V; Price: 0.0079; Type: -; Device Package: 0603 (1608 Metric)
footprint CAP 0603/1608
pins: 1, 2

## CL10C160JB8NNNC
designator C?, comment 16pF
CAP CER 16PF 50V NP0 0603; Part Number: CL10C160JB8NNNC; Manufacturer: Samsung Electro-Mechanics America, Inc.; TemperatureRange: -55C ~ 125C; TemperatureCoefficient: C0G, NP0; Tolerance: 5%; Value: 16pF; PartId: 5368; Supplier 1: Digi-Key; Supplier Part Number 1: 1276-2204-2-ND; ComponentLink1Description: Datasheet; ComponentLink1URL: http://www.samsungsem.com/kr/support/product-search/mlcc/CL10C160JB8NNNC.jsp; ComponentLink2Description: Digi-Key listing; ComponentLink2URL: http://digikey.com/product-detail/en/CL10C160JB8NNNC/1276-2204-2-ND/3887862; Voltage: 50V; Price: 0.0102; Type: -; Device Package: 0603 (1608 Metric)
footprint CAP 0603/1608
pins: 1, 2

## CL10C161JB8NNNC
designator C?, comment 160pF
CAP CER 160PF 50V NP0 0603; Part Number: CL10C161JB8NNNC; Manufacturer: Samsung Electro-Mechanics America, Inc.; TemperatureRange: -55C ~ 125C; TemperatureCoefficient: C0G, NP0; Tolerance: 5%; Value: 160pF; PartId: 5454; Supplier 1: Digi-Key; Supplier Part Number 1: 1276-2205-2-ND; ComponentLink1Description: Datasheet; ComponentLink1URL: http://www.samsungsem.com/kr/support/product-search/mlcc/CL10C161JB8NNNC.jsp; ComponentLink2Description: Digi-Key listing; ComponentLink2URL: http://digikey.com/product-detail/en/CL10C161JB8NNNC/1276-2205-2-ND/3887863; Voltage: 50V; Price: 0.0153; Type: -; Device Package: 0603 (1608 Metric)
footprint CAP 0603/1608
pins: 1, 2

## CL10C180FB8NNNC
designator C?, comment 18pF
CAP CER 18PF 50V NP0 0603; Part Number: CL10C180FB8NNNC; Manufacturer: Samsung Electro-Mechanics America, Inc.; TemperatureRange: -55C ~ 125C; TemperatureCoefficient: C0G, NP0; Tolerance: 1%; Value: 18pF; PartId: 13680; Supplier 1: Digi-Key; Supplier Part Number 1: 1276-2206-2-ND; ComponentLink1Description: Datasheet; ComponentLink1URL: //media.digikey.com/pdf/Data%20Sheets/Samsung%20PDFs/CL10C180FB8NNNC_Spec.pdf; ComponentLink2Description: Digi-Key Listing; ComponentLink2URL: https://www.digikey.com/product-detail/en/samsung-electro-mechanics-america-inc/CL10C180FB8NNNC/1276-2206-2-ND/3887864; Voltage: 50V; Price: 0.0238; Device Package: 0603 (1608 Metric)
footprint CAP 0603/1608
pins: 1, 2

## CL10C180JB8NFNC
designator C?, comment 18pF
CAP CER 18PF 50V C0G/NP0 0603; Part Number: CL10C180JB8NFNC; Manufacturer: Samsung Electro-Mechanics; TemperatureRange: -55C ~ 125C; TemperatureCoefficient: C0G, NP0; Tolerance: 5%; Value: 18pF; PartId: 30327; Supplier 1: Digi-Key; Supplier Part Number 1: 1276-2209-2-ND; ComponentLink1Description: Datasheet; ComponentLink1URL: http://www.samsungsem.com/kr/support/product-search/mlcc/CL10C180JB8NFNC.jsp; ComponentLink2Description: Digi-Key Listing; ComponentLink2URL: https://www.digikey.com/product-detail/en/samsung-electro-mechanics/CL10C180JB8NFNC/1276-2209-2-ND/3887867; Voltage: 50V; Price: 0; Device Package: 0603 (1608 Metric)
footprint CAP 0603/1608
pins: 1, 2

## CL10C180JB8NNNC
designator C?, comment 18pF
CAP CER 18PF 50V NP0 0603; Part Number: CL10C180JB8NNNC; Manufacturer: Samsung Electro-Mechanics America, Inc.; TemperatureRange: -55C ~ 125C; TemperatureCoefficient: C0G, NP0; Tolerance: 5%; Value: 18pF; PartId: 5316; Supplier 1: Digi-Key; Supplier Part Number 1: 1276-1089-2-ND; ComponentLink1Description: Datasheet; ComponentLink1URL: http://www.samsungsem.com/kr/support/product-search/mlcc/CL10C180JB8NNNC.jsp; ComponentLink2Description: Digi-Key listing; ComponentLink2URL: http://digikey.com/product-detail/en/CL10C180JB8NNNC/1276-1089-2-ND/3886747; Voltage: 50V; Price: 0.0083; Type: -; Device Package: 0603 (1608 Metric)
footprint CAP 0603/1608
pins: 1, 2

## CL10C180JC8NNNC
designator C?, comment 18pF
CAP CER 18PF 100V NP0 0603; Part Number: CL10C180JC8NNNC; Manufacturer: Samsung Electro-Mechanics America, Inc.; TemperatureRange: -55C ~ 125C; TemperatureCoefficient: C0G, NP0; Tolerance: 5%; Value: 18pF; PartId: 5432; Supplier 1: Digi-Key; Supplier Part Number 1: 1276-2210-2-ND; ComponentLink1Description: Datasheet; ComponentLink1URL: http://www.samsungsem.com/kr/support/product-search/mlcc/CL10C180JC8NNNC.jsp; ComponentLink2Description: Digi-Key listing; ComponentLink2URL: http://digikey.com/product-detail/en/CL10C180JC8NNNC/1276-2210-2-ND/3887868; Voltage: 100V; Price: 0.0142; Type: -; Device Package: 0603 (1608 Metric)
footprint CAP 0603/1608
pins: 1, 2

## CL10C181FB8NNNC
designator C?, comment 180pF
CAP CER 180PF 50V NP0 0603; Part Number: CL10C181FB8NNNC; Manufacturer: Samsung Electro-Mechanics America, Inc.; TemperatureRange: -55C ~ 125C; TemperatureCoefficient: C0G, NP0; Tolerance: 1%; Value: 180pF; PartId: 5654; Supplier 1: Digi-Key; Supplier Part Number 1: 1276-2211-2-ND; ComponentLink1Description: Datasheet; ComponentLink1URL: http://media.digikey.com/pdf/Data%20Sheets/Samsung%20PDFs/CL10C181FB8NNNC_Spec.pdf; ComponentLink2Description: Digi-Key listing; ComponentLink2URL: http://digikey.com/product-detail/en/CL10C181FB8NNNC/1276-2211-2-ND/3887869; Voltage: 50V; Price: 0.0639; Type: -; Device Package: 0603 (1608 Metric)
footprint CAP 0603/1608
pins: 1, 2

## CL10C181JB8NCNC
designator C?, comment 180pF
CAP CER 180PF 50V NP0 0603; Part Number: CL10C181JB8NCNC; Manufacturer: Samsung Electro-Mechanics America, Inc.; TemperatureRange: -55C ~ 125C; TemperatureCoefficient: C0G, NP0; Tolerance: 5%; Value: 180pF; PartId: 13530; Supplier 1: Digi-Key; Supplier Part Number 1: 1276-2213-2-ND; ComponentLink1Description: Datasheet; ComponentLink1URL: //media.digikey.com/pdf/Data%20Sheets/Samsung%20PDFs/CL10C181JB8NCNC_Spec.pdf; ComponentLink2Description: Digi-Key Listing; ComponentLink2URL: https://www.digikey.com/product-detail/en/samsung-electro-mechanics-america-inc/CL10C181JB8NCNC/1276-2213-2-ND/3887871; Voltage: 50V; Price: 0.0053; Device Package: 0603 (1608 Metric)
footprint CAP 0603/1608
pins: 1, 2

## CL10C181JB8NNNC
designator C?, comment 180pF
CAP CER 180PF 50V NP0 0603; Part Number: CL10C181JB8NNNC; Manufacturer: Samsung Electro-Mechanics America, Inc.; TemperatureRange: -55C ~ 125C; TemperatureCoefficient: C0G, NP0; Tolerance: 5%; Value: 180pF; PartId: 5298; Supplier 1: Digi-Key; Supplier Part Number 1: 1276-1255-2-ND; ComponentLink1Description: Datasheet; ComponentLink1URL: http://www.samsungsem.com/kr/support/product-search/mlcc/CL10C181JB8NNNC.jsp; ComponentLink2Description: Digi-Key listing; ComponentLink2URL: http://digikey.com/product-detail/en/CL10C181JB8NNNC/1276-1255-2-ND/3886913; Voltage: 50V; Price: 0.0077; Type: -; Device Package: 0603 (1608 Metric)
footprint CAP 0603/1608
pins: 1, 2

## CL10C181JB81PND
designator C?, comment 180pF
CAP CER 180PF 50V C0G/NP0 0603; Part Number: CL10C181JB81PND; Manufacturer: Samsung Electro-Mechanics; TemperatureRange: -55C ~ 125C; TemperatureCoefficient: C0G, NP0; Tolerance: 5%; Value: 180pF; PartId: 30429; Supplier 1: Digi-Key; Supplier Part Number 1: 1276-6452-2-ND; ComponentLink1Description: Datasheet; ComponentLink1URL: http://www.samsungsem.com/kr/support/product-search/mlcc/CL10C181JB81PND.jsp; ComponentLink2Description: Digi-Key Listing; ComponentLink2URL: https://www.digikey.com/product-detail/en/samsung-electro-mechanics/CL10C181JB81PND/1276-6452-2-ND/3894347; Voltage: 50V; Price: 0; Device Package: 0603 (1608 Metric)
footprint CAP 0603/1608
pins: 1, 2

## CL10C200JB8NNNC
designator C?, comment 20pF
CAP CER 20PF 50V NP0 0603; Part Number: CL10C200JB8NNNC; Manufacturer: Samsung Electro-Mechanics America, Inc.; TemperatureRange: -55C ~ 125C; TemperatureCoefficient: C0G, NP0; Tolerance: 5%; Value: 20pF; PartId: 5318; Supplier 1: Digi-Key; Supplier Part Number 1: 1276-1187-2-ND; ComponentLink1Description: Datasheet; ComponentLink1URL: http://www.samsungsem.com/kr/support/product-search/mlcc/CL10C200JB8NNNC.jsp; ComponentLink2Description: Digi-Key listing; ComponentLink2URL: http://digikey.com/product-detail/en/CL10C200JB8NNNC/1276-1187-2-ND/3886845; Voltage: 50V; Price: 0.0085; Type: -; Device Package: 0603 (1608 Metric)
footprint CAP 0603/1608
pins: 1, 2

## CL10C201JB8NNNC
designator C?, comment 200pF
CAP CER 200PF 50V NP0 0603; Part Number: CL10C201JB8NNNC; Manufacturer: Samsung Electro-Mechanics America, Inc.; TemperatureRange: -55C ~ 125C; TemperatureCoefficient: C0G, NP0; Tolerance: 5%; Value: 200pF; PartId: 5467; Supplier 1: Digi-Key; Supplier Part Number 1: 1276-2222-2-ND; ComponentLink1Description: Datasheet; ComponentLink1URL: http://www.samsungsem.com/kr/support/product-search/mlcc/CL10C201JB8NNNC.jsp; ComponentLink2Description: Digi-Key listing; ComponentLink2URL: http://digikey.com/product-detail/en/CL10C201JB8NNNC/1276-2222-2-ND/3887880; Voltage: 50V; Price: 0.0163; Type: -; Device Package: 0603 (1608 Metric)
footprint CAP 0603/1608
pins: 1, 2

## CL10C220FB8NNNC
designator C?, comment 22pF
CAP CER 22PF 50V NP0 0603; Part Number: CL10C220FB8NNNC; Manufacturer: Samsung Electro-Mechanics America, Inc.; TemperatureRange: -55C ~ 125C; TemperatureCoefficient: C0G, NP0; Tolerance: 1%; Value: 22pF; PartId: 5611; Supplier 1: Digi-Key; Supplier Part Number 1: 1276-2223-2-ND; ComponentLink1Description: Datasheet; ComponentLink1URL: http://media.digikey.com/pdf/Data%20Sheets/Samsung%20PDFs/CL10C220FB8NNNC_Spec.pdf; ComponentLink2Description: Digi-Key listing; ComponentLink2URL: http://digikey.com/product-detail/en/CL10C220FB8NNNC/1276-2223-2-ND/3887881; Voltage: 50V; Price: 0.0342; Type: -; Device Package: 0603 (1608 Metric)
footprint CAP 0603/1608
pins: 1, 2

## CL10C220FB8NNWC
designator C?, comment 22pF
CAP CER 22PF 50V C0G/NP0 0603; Part Number: CL10C220FB8NNWC; Manufacturer: Samsung Electro-Mechanics; TemperatureRange: -55C ~ 125C; TemperatureCoefficient: C0G, NP0; Tolerance: 1%; Value: 22pF; PartId: 30713; Supplier 1: Digi-Key; Supplier Part Number 1: 1276-2224-2-ND; ComponentLink1Description: Datasheet; ComponentLink1URL: http://www.samsungsem.com/kr/support/product-search/mlcc/CL10C220FB8NNWC.jsp; ComponentLink2Description: Digi-Key Listing; ComponentLink2URL: https://www.digikey.com/product-detail/en/samsung-electro-mechanics/CL10C220FB8NNWC/1276-2224-2-ND/3887882; Voltage: 50V; Price: 0; Device Package: 0603 (1608 Metric)
footprint CAP 0603/1608
pins: 1, 2

## CL10C220GB8NNNC
designator C?, comment 22pF
CAP CER 22PF 50V NP0 0603; Part Number: CL10C220GB8NNNC; Manufacturer: Samsung Electro-Mechanics America, Inc.; TemperatureRange: -55C ~ 125C; TemperatureCoefficient: C0G, NP0; Tolerance: 2%; Value: 22pF; PartId: 5565; Supplier 1: Digi-Key; Supplier Part Number 1: 1276-2225-2-ND; ComponentLink1Description: Datasheet; ComponentLink1URL: http://www.samsungsem.com/kr/support/product-search/mlcc/CL10C220GB8NNNC.jsp; ComponentLink2Description: Digi-Key listing; ComponentLink2URL: http://digikey.com/product-detail/en/CL10C220GB8NNNC/1276-2225-2-ND/3887883; Voltage: 50V; Price: 0.0278; Type: -; Device Package: 0603 (1608 Metric)
footprint CAP 0603/1608
pins: 1, 2

## CL10C220JB8NCNC
designator C?, comment 22pF
CAP CER 22PF 50V NP0 0603; Part Number: CL10C220JB8NCNC; Manufacturer: Samsung Electro-Mechanics America, Inc.; TemperatureRange: -55C ~ 125C; TemperatureCoefficient: C0G, NP0; Tolerance: 5%; Value: 22pF; PartId: 5288; Supplier 1: Digi-Key; Supplier Part Number 1: 1276-2227-2-ND; ComponentLink1Description: Datasheet; ComponentLink1URL: http://media.digikey.com/pdf/Data%20Sheets/Samsung%20PDFs/CL10C220JB8NCNC_Spec.pdf; ComponentLink2Description: Digi-Key listing; ComponentLink2URL: http://digikey.com/product-detail/en/CL10C220JB8NCNC/1276-2227-2-ND/3887885; Voltage: 50V; Price: 0.0073; Type: -; Device Package: 0603 (1608 Metric)
footprint CAP 0603/1608
pins: 1, 2

## CL10C220JB8NNNC
designator C?, comment 22pF
CAP CER 22PF 50V NP0 0603; Part Number: CL10C220JB8NNNC; Manufacturer: Samsung Electro-Mechanics America, Inc.; TemperatureRange: -55C ~ 125C; TemperatureCoefficient: C0G, NP0; Tolerance: 5%; Value: 22pF; PartId: 13079; Supplier 1: Digi-Key; Supplier Part Number 1: 1276-1023-2-ND; ComponentLink1Description: Datasheet; ComponentLink1URL: http://www.samsungsem.com/kr/support/product-search/mlcc/CL10C220JB8NNNC.jsp; ComponentLink2Description: Digi-Key Listing; ComponentLink2URL: https://www.digikey.com/product-detail/en/samsung-electro-mechanics-america-inc/CL10C220JB8NNNC/1276-1023-2-ND/3886681; Voltage: 50V; Price: 0.0056; Device Package: 0603 (1608 Metric)
footprint CAP 0603/1608
pins: 1, 2

## CL10C221FB8NNNC
designator C?, comment 220pF
CAP CER 220PF 50V NP0 0603; Part Number: CL10C221FB8NNNC; Manufacturer: Samsung Electro-Mechanics America, Inc.; TemperatureRange: -55C ~ 125C; TemperatureCoefficient: C0G, NP0; Tolerance: 1%; Value: 220pF; PartId: 5656; Supplier 1: Digi-Key; Supplier Part Number 1: 1276-2230-2-ND; ComponentLink1Description: Datasheet; ComponentLink1URL: http://media.digikey.com/pdf/Data%20Sheets/Samsung%20PDFs/CL10C221FB8NNNC_Spec.pdf; ComponentLink2Description: Digi-Key listing; ComponentLink2URL: http://digikey.com/product-detail/en/CL10C221FB8NNNC/1276-2230-2-ND/3887888; Voltage: 50V; Price: 0.0665; Type: -; Device Package: 0603 (1608 Metric)
footprint CAP 0603/1608
pins: 1, 2

## CL10C221GB8NCNC
designator C?, comment 220pF
CAP CER 220PF 50V NP0 0603; Part Number: CL10C221GB8NCNC; Manufacturer: Samsung Electro-Mechanics America, Inc.; TemperatureRange: -55C ~ 125C; TemperatureCoefficient: C0G, NP0; Tolerance: 2%; Value: 220pF; PartId: 5462; Supplier 1: Digi-Key; Supplier Part Number 1: 1276-2231-2-ND; ComponentLink1Description: Datasheet; ComponentLink1URL: http://media.digikey.com/pdf/Data%20Sheets/Samsung%20PDFs/CL10C221GB8NCNC_Spec.pdf; ComponentLink2Description: Digi-Key listing; ComponentLink2URL: http://digikey.com/product-detail/en/CL10C221GB8NCNC/1276-2231-2-ND/3887889; Voltage: 50V; Price: 0.0163; Type: -; Device Package: 0603 (1608 Metric)
footprint CAP 0603/1608
pins: 1, 2

## CL10C221GB8NNNC
designator C?, comment 220pF
CAP CER 220PF 50V C0G/NP0 0603; Part Number: CL10C221GB8NNNC; Manufacturer: Samsung Electro-Mechanics; TemperatureRange: -55C ~ 125C; TemperatureCoefficient: C0G, NP0; Tolerance: 2%; Value: 220pF; PartId: 30757; Supplier 1: Digi-Key; Supplier Part Number 1: 1276-2232-2-ND; ComponentLink1Description: Datasheet; ComponentLink1URL: http://www.samsungsem.com/kr/support/product-search/mlcc/CL10C221GB8NNNC.jsp; ComponentLink2Description: Digi-Key Listing; ComponentLink2URL: https://www.digikey.com/product-detail/en/samsung-electro-mechanics/CL10C221GB8NNNC/1276-2232-2-ND/3887890; Voltage: 50V; Price: 0; Device Package: 0603 (1608 Metric)
footprint CAP 0603/1608
pins: 1, 2

## CL10C221JB8NCNC
designator C?, comment 220pF
CAP CER 220PF 50V NP0 0603; Part Number: CL10C221JB8NCNC; Manufacturer: Samsung Electro-Mechanics America, Inc.; TemperatureRange: -55C ~ 125C; TemperatureCoefficient: C0G, NP0; Tolerance: 5%; Value: 220pF; PartId: 5386; Supplier 1: Digi-Key; Supplier Part Number 1: 1276-2234-2-ND; ComponentLink1Description: Datasheet; ComponentLink1URL: http://media.digikey.com/pdf/Data%20Sheets/Samsung%20PDFs/CL10C221JB8NCNC_Spec.pdf; ComponentLink2Description: Digi-Key listing; ComponentLink2URL: http://digikey.com/product-detail/en/CL10C221JB8NCNC/1276-2234-2-ND/3887892; Voltage: 50V; Price: 0.0107; Type: -; Device Package: 0603 (1608 Metric)
footprint CAP 0603/1608
pins: 1, 2

## CL10C221JB8NNNC
designator C?, comment 220pF
CAP CER 220PF 50V NP0 0603; Part Number: CL10C221JB8NNNC; Manufacturer: Samsung Electro-Mechanics America, Inc.; TemperatureRange: -55C ~ 125C; TemperatureCoefficient: C0G, NP0; Tolerance: 5%; Value: 220pF; PartId: 13022; Supplier 1: Digi-Key; Supplier Part Number 1: 1276-1048-2-ND; ComponentLink1Description: Datasheet; ComponentLink1URL: http://www.samsungsem.com/kr/support/product-search/mlcc/CL10C221JB8NNNC.jsp; ComponentLink2Description: Digi-Key Listing; ComponentLink2URL: https://www.digikey.com/product-detail/en/samsung-electro-mechanics-america-inc/CL10C221JB8NNNC/1276-1048-2-ND/3886706; Voltage: 50V; Price: 0.0074; Device Package: 0603 (1608 Metric)
footprint CAP 0603/1608
pins: 1, 2

## CL10C221JC8NNNC
designator C?, comment 220pF
CAP CER 220PF 100V NP0 0603; Part Number: CL10C221JC8NNNC; Manufacturer: Samsung Electro-Mechanics America, Inc.; TemperatureRange: -55C ~ 125C; TemperatureCoefficient: C0G, NP0; Tolerance: 5%; Value: 220pF; PartId: 5419; Supplier 1: Digi-Key; Supplier Part Number 1: 1276-2237-2-ND; ComponentLink1Description: Datasheet; ComponentLink1URL: http://www.samsungsem.com/kr/support/product-search/mlcc/CL10C221JC8NNNC.jsp; ComponentLink2Description: Digi-Key listing; ComponentLink2URL: http://digikey.com/product-detail/en/CL10C221JC8NNNC/1276-2237-2-ND/3887895; Voltage: 100V; Price: 0.0132; Type: -; Device Package: 0603 (1608 Metric)
footprint CAP 0603/1608
pins: 1, 2

## CL10C221KB8NNNC
designator C?, comment 220pF
CAP CER 220PF 50V NP0 0603; Part Number: CL10C221KB8NNNC; Manufacturer: Samsung Electro-Mechanics America, Inc.; TemperatureRange: -55C ~ 125C; TemperatureCoefficient: C0G, NP0; Tolerance: 10%; Value: 220pF; PartId: 5390; Supplier 1: Digi-Key; Supplier Part Number 1: 1276-2238-2-ND; ComponentLink1Description: Datasheet; ComponentLink1URL: http://www.samsungsem.com/kr/support/product-search/mlcc/CL10C221KB8NNNC.jsp; ComponentLink2Description: Digi-Key listing; ComponentLink2URL: http://digikey.com/product-detail/en/CL10C221KB8NNNC/1276-2238-2-ND/3887896; Voltage: 50V; Price: 0.0107; Type: -; Device Package: 0603 (1608 Metric)
footprint CAP 0603/1608
pins: 1, 2

## CL10C221KD8NNNC
designator C?, comment 220pF
CAP CER 220PF 200V C0G/NP0 0603; Part Number: CL10C221KD8NNNC; Manufacturer: Samsung Electro-Mechanics; TemperatureRange: -55C ~ 125C; TemperatureCoefficient: C0G, NP0; Tolerance: 10%; Value: 220pF; PartId: 30432; Supplier 1: Digi-Key; Supplier Part Number 1: 1276-6579-2-ND; ComponentLink1Description: Datasheet; ComponentLink1URL: http://www.samsungsem.com/kr/support/product-search/mlcc/CL10C221KD8NNNC.jsp; ComponentLink2Description: Digi-Key Listing; ComponentLink2URL: https://www.digikey.com/product-detail/en/samsung-electro-mechanics/CL10C221KD8NNNC/1276-6579-2-ND/5961063; Voltage: 200V; Price: 0; Device Package: 0603 (1608 Metric)
footprint CAP 0603/1608
pins: 1, 2

## CL10C222GA8NNNC
designator C?, comment 2200pF
CAP CER 2200PF 25V NP0 0603; Part Number: CL10C222GA8NNNC; Manufacturer: Samsung Electro-Mechanics America, Inc.; TemperatureRange: -55C ~ 125C; TemperatureCoefficient: C0G, NP0; Tolerance: 2%; Value: 2200pF; PartId: 5643; Supplier 1: Digi-Key; Supplier Part Number 1: 1276-2239-2-ND; ComponentLink1Description: Datasheet; ComponentLink1URL: http://www.samsungsem.com/kr/support/product-search/mlcc/CL10C222GA8NNNC.jsp; ComponentLink2Description: Digi-Key listing; ComponentLink2URL: http://digikey.com/product-detail/en/CL10C222GA8NNNC/1276-2239-2-ND/3887897; Voltage: 25V; Price: 0.0462; Type: -; Device Package: 0603 (1608 Metric)
footprint CAP 0603/1608
pins: 1, 2

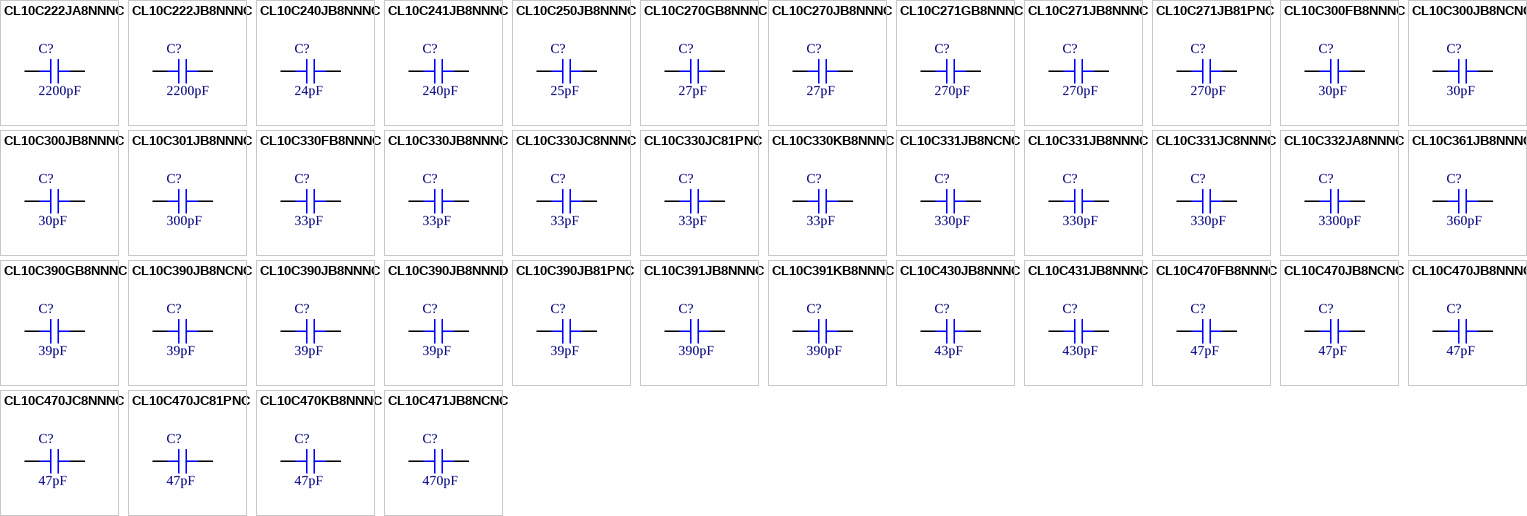
[diagram p15: symbols CL10C222JA8NNNC to CL10C471JB8NCNC]